# Altium schematic symbol library SCH - CONNECTORS - SAMTEC TSW-105-08-G-T-RA.SchLib: 1 symbol
Pins are listed as number, name and electrical type; pins without a type are passive.

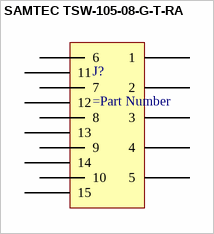
[diagram p0: symbol SAMTEC TSW-105-08-G-T-RA]

## SAMTEC TSW-105-08-G-T-RA
designator J?
pins: 1, 2, 3, 4, 5, 6, 7, 8, 9, 10, 11, 12, 13, 14, 15